# Altium schematic symbol library Other$.SchLib: 3 symbols
Pins are listed as number, name and electrical type; pins without a type are passive.

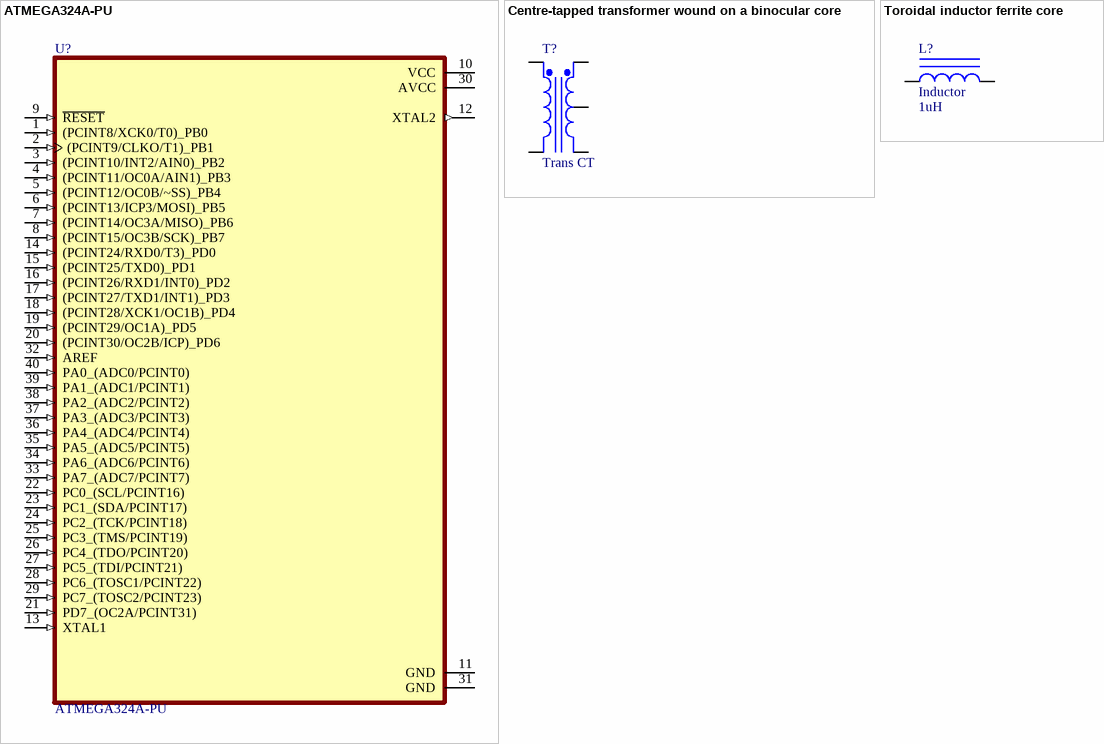
[diagram p0: symbols ATMEGA324A-PU to Toroidal inductor ferrite core]

## ATMEGA324A-PU
designator U?
AVR series Microcontroller IC 8-Bit 20MHz 32KB (16K x 16) FLASH 40-PDIP; MF: Microchip Technology; Designator: U?; Package: PDIP-40 Microchip; SnapEDA_Link: https://www.snapeda.com/parts/ATMEGA324A-PU/Microchip/view-part/?ref=snap; Value: *; MP: ATMEGA324A-PU; Availability: In Stock; Price: None; Purchase-URL: https://pricing.snapeda.com/search/part/ATMEGA324A-PU/?ref=eda; Check_prices: https://www.snapeda.com/parts/ATMEGA324A-PU/Microchip/view-part/?ref=eda; Manufacturer Part Number: ATMEGA324A-PU
footprint 40-DIP (0.600", 15.24mm)
pins: 1 (PCINT8/XCK0/T0)_PB0 (in), 2 (PCINT9/CLKO/T1)_PB1 (in), 3 (PCINT10/INT2/AIN0)_PB2 (in), 4 (PCINT11/OC0A/AIN1)_PB3 (in), 5 (PCINT12/OC0B/~SS)_PB4 (in), 6 (PCINT13/ICP3/MOSI)_PB5 (in), 7 (PCINT14/OC3A/MISO)_PB6 (in), 8 (PCINT15/OC3B/SCK)_PB7 (in), 9 ~{RESET} (in), 10 VCC (power), 11 GND (power), 12 XTAL2 (out), 13 XTAL1 (in), 14 (PCINT24/RXD0/T3)_PD0 (in), 15 (PCINT25/TXD0)_PD1 (in), 16 (PCINT26/RXD1/INT0)_PD2 (in), 17 (PCINT27/TXD1/INT1)_PD3 (in), 18 (PCINT28/XCK1/OC1B)_PD4 (in), 19 (PCINT29/OC1A)_PD5 (in), 20 (PCINT30/OC2B/ICP)_PD6 (in), 21 PD7_(OC2A/PCINT31) (in), 22 PC0_(SCL/PCINT16) (in), 23 PC1_(SDA/PCINT17) (in), 24 PC2_(TCK/PCINT18) (in), 25 PC3_(TMS/PCINT19) (in), 26 PC4_(TDO/PCINT20) (in), 27 PC5_(TDI/PCINT21) (in), 28 PC6_(TOSC1/PCINT22) (in), 29 PC7_(TOSC2/PCINT23) (in), 30 AVCC (power), 31 GND (power), 32 AREF (in), 33 PA7_(ADC7/PCINT7) (in), 34 PA6_(ADC6/PCINT6) (in), 35 PA5_(ADC5/PCINT5) (in), 36 PA4_(ADC4/PCINT4) (in), 37 PA3_(ADC3/PCINT3) (in), 38 PA2_(ADC2/PCINT2) (in), 39 PA1_(ADC1/PCINT1) (in), 40 PA0_(ADC0/PCINT0) (in)

## Centre-tapped transformer wound on a binocular core
designator T?, comment Trans CT
Center-Tapped Transformer (Coupled Inductor Model); Designator: T?; Published: 8-Jun-2000; LatestRevisionDate: 17-Jul-2002; LatestRevisionNote: Re-released for DXP Platform.; Publisher: Altium Limited
simulation model TRANSFORMER (Transformer)
footprint BIFILAR-2402
pins: 1 Sec+, 2 SecCT, 3 Sec-, 4 Pri+, 5 Pri-

## Toroidal inductor ferrite core
designator L?, comment Inductor  value 1uH
Designator: L?; Published: 8-Jun-2000; LatestRevisionDate: 29-May-2009; LatestRevisionNote: IPC-7351 Footprint Added.; Publisher: Altium Limited
simulation model INDUCTOR (Inductor)
signal-integrity model Inductor
footprint TORIND-T25
footprint TORIND-T30
footprint TORIND-T37
pins: 1, 2